# EAGLE library part TEMPLATE_ARDUINO_UNO (library voltera_community_lib)
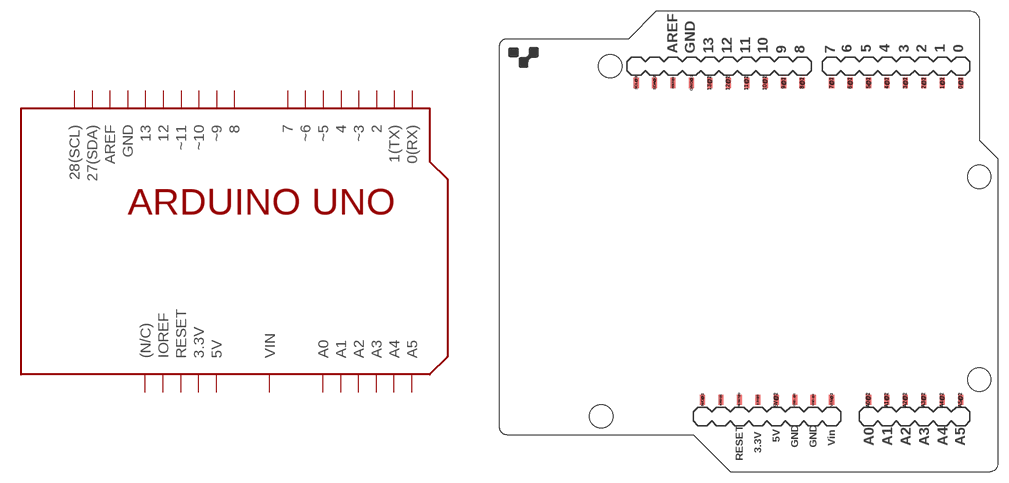
[diagram p2: symbol with the pads of ARDUINO_UNO; footprint ARDUINO_UNO]

Designator prefix P

## TEMPLATE_ARDUINO_UNO_SHIELD  [ARDUINO_UNO]
0@1  0(RX)
0@2  0(RX)
1@1  1(TX)
1@2  1(TX)
2@1  2
2@2  2
3.3V@1  3.3V
3.3V@2  3.3V
3@1  ~3
3@2  ~3
4@1  4
4@2  4
5@1  ~5
5@2  ~5
5V@1  5V
5V@2  5V
6@1  ~6
6@2  ~6
7@1  7
7@2  7
8@1  8
8@2  8
9@1  ~9
9@2  ~9
10@1  ~10
10@2  ~10
11@1  ~11
11@2  ~11
12@1  12
12@2  12
13@1  13
13@2  13
A0@1  A0
A0@2  A0
A1@1  A1
A1@2  A1
A2@1  A2
A2@2  A2
A3@1  A3
A3@2  A3
A4@1  A4
A4@2  A4
A5@1  A5
A5@2  A5
AREF@1  AREF
AREF@2  AREF
GND..@1  GND
GND..@2  GND
GND.@1  GND
GND.@2  GND
GND@1  GND
GND@2  GND
I/OREF@1  IOREF
I/OREF@2  IOREF
N/C@1  (N/C)
N/C@2  (N/C)
RESET@1  RESET
RESET@2  RESET
SCL@1  28(SCL)
SCL@2  28(SCL)
SDA@1  27(SDA)
SDA@2  27(SDA)
VIN@1  VIN
VIN@2  VIN

## Footprint ARDUINO_UNO (pad centres in mm)
smd 0.711 x 1.422 bottom: 0@1 30.48,23.114; 1@1 27.94,23.114; 2@1 25.4,23.114; 3.3V@1 2.54,-20.574; 3@1 22.86,23.114; 4@1 20.32,23.114; 5@1 17.78,23.114; 5V@1 5.08,-20.574; 6@1 15.24,23.114; 7@1 12.7,23.114; 8@1 8.636,23.114; 9@1 6.096,23.114; 10@1 3.556,23.114; 11@1 1.016,23.114; 12@1 -1.524,23.114; 13@1 -4.064,23.114; A0@1 17.78,-20.574; A1@1 20.32,-20.574; A2@1 22.86,-20.574; A3@1 25.4,-20.574; A4@1 27.94,-20.574; A5@1 30.48,-20.574; AREF@1 -9.144,23.114; GND..@1 7.62,-20.574; GND.@1 10.16,-20.574; GND@1 -6.604,23.114; I/OREF@1 -2.54,-20.574; N/C@1 -5.08,-20.574; RESET@1 0,-20.574; SCL@1 -14.224,23.114; SDA@1 -11.684,23.114; VIN@1 12.7,-20.574
smd 0.711 x 1.422: 0@2 30.48,23.114; 1@2 27.94,23.114; 2@2 25.4,23.114; 3.3V@2 2.54,-20.574; 3@2 22.86,23.114; 4@2 20.32,23.114; 5@2 17.78,23.114; 5V@2 5.08,-20.574; 6@2 15.24,23.114; 7@2 12.7,23.114; 8@2 8.636,23.114; 9@2 6.096,23.114; 10@2 3.556,23.114; 11@2 1.016,23.114; 12@2 -1.524,23.114; 13@2 -4.064,23.114; A0@2 17.78,-20.574; A1@2 20.32,-20.574; A2@2 22.86,-20.574; A3@2 25.4,-20.574; A4@2 27.94,-20.574; A5@2 30.48,-20.574; AREF@2 -9.144,23.114; GND..@2 7.62,-20.574; GND.@2 10.16,-20.574; GND@2 -6.604,23.114; I/OREF@2 -2.54,-20.574; N/C@2 -5.08,-20.574; RESET@2 0,-20.574; SCL@2 -14.224,23.114; SDA@2 -11.684,23.114; VIN@2 12.7,-20.574
hole 3.2 at 33.02,-17.78
hole 3.2 at 33.02,10.16
hole 3.2 at -17.78,25.4
hole 3.2 at -19.05,-22.86